# Altium schematic symbol library ADF4350BCPZ.SchLib: 1 symbol
Pins are listed as number, name and electrical type; pins without a type are passive.

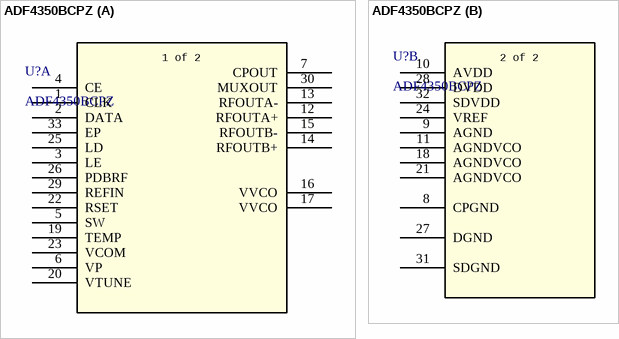
[diagram p0: symbol ADF4350BCPZ]

## ADF4350BCPZ
designator U?
Wideband Synthesizer with Integrated VCO; Manufacturer_Name: Analog Devices Inc; Copyright: Copyright (C) 2026 Ultra Librarian. All rights reserved.; Manufacturer_Part_Number: ADF4350BCPZ; RefDes: RefDes; Type: Type
footprint CP_32_2_ADI
part A pins: 1 CLK, 2 DATA, 3 LE, 4 CE, 5 SW, 6 VP, 7 CPOUT, 12 RFOUTA+, 13 RFOUTA-, 14 RFOUTB+, 15 RFOUTB-, 16 VVCO, 17 VVCO, 19 TEMP, 20 VTUNE, 22 RSET, 23 VCOM, 25 LD, 26 PDBRF, 29 REFIN, 30 MUXOUT, 33 EP
part B pins: 8 CPGND, 9 AGND, 10 AVDD, 11 AGNDVCO, 18 AGNDVCO, 21 AGNDVCO, 24 VREF, 27 DGND, 28 DVDD, 31 SDGND, 32 SDVDD
part A text: 1 of 2
part B text: 2 of 2